# EAGLE library part PIC18F2550 (library microchip)
PIC18F2550 PIC18f2550 product page <http://www.microchip.com/wwwproducts/en/PIC18F2550> Datasheet <http://ww1.microchip.com/downloads/en/DeviceDoc/39632e.pdf> Ideal for low power (nanoWatt) and connectivity applications that benefit from the availability of three serial ports: FS-USB (12 Mbit/s), I²C™ and SPI™ (up to 10Mbit/s) and an asynchronous (LIN capable) serial port (EUSART). Large amounts of RAM memory for buffering and Enhanced FLASH program memory make it ideal for embedded control and monitoring applications that require periodic connection with a (legacy free) Personal Computer via USB for data upload/download and/or firmware updates. While operating up to 48 MHz, the PIC18F2550 is also mostly software and hardware compatible with the PIC16C745 Low-Speed USB OTP devices. THE PICSTART® Plus does NOT currently support this device but may support it in the future. USB Application Design Center <http://www.microchip.com/usb> Features: 1K byte Dual Port RAM + 1K byte GP RAM Full Speed Transceiver 16 Endpoints (IN/OUT) Internal Pull Up resistors (D+/D-) 48 MHz performance (12 MIPS) Pin-to-pin compatible with PIC16C7X5 Parameter Name Value Program Memory Type Flash Program Memory (KB) 32 CPU Speed (MIPS) 12 RAM Bytes 2,048 Data EEPROM (bytes) 256 Digital Communication Peripherals 1-UART, 1-A/E/USART, 1-SPI, 1-I2C1-MSSP(SPI/I2C) Capture/Compare/PWM Peripherals 2 CCP Timers 1 x 8-bit, 3 x 16-bit ADC 10 ch, 10-bit Comparators 2 USB (ch, speed, compliance) 1, FS Device, USB 2.0 Temperature Range (C) -40 to 85 Operating Voltage Range (V) 2 to 5.5 Pin Count 28
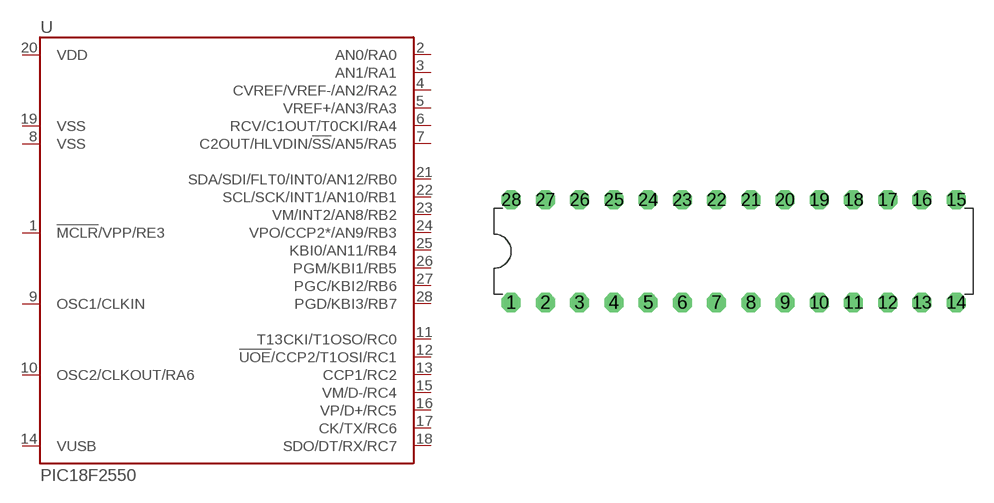
[diagram p1: symbol with the pads of DIL28N; footprint DIL28N]

Designator prefix U

## PIC18F2550-I/SP  [DIL28N]
1  !MCLR!/VPP/RE3  in
2  AN0/RA0
3  AN1/RA1
4  CVREF/VREF-/AN2/RA2
5  VREF+/AN3/RA3
6  RCV/C1OUT/T0CKI/RA4
7  C2OUT/HLVDIN/!SS!/AN5/RA5
8  VSS  pwr
9  OSC1/CLKIN  in
10  OSC2/CLKOUT/RA6  out
11  T13CKI/T1OSO/RC0
12  !UOE!/CCP2/T1OSI/RC1
13  CCP1/RC2
14  VUSB
15  VM/D-/RC4
16  VP/D+/RC5
17  CK/TX/RC6
18  SDO/DT/RX/RC7
19  VSS  pwr
20  VDD  pwr
21  SDA/SDI/FLT0/INT0/AN12/RB0
22  SCL/SCK/INT1/AN10/RB1
23  VM/INT2/AN8/RB2
24  VPO/CCP2*/AN9/RB3
25  KBI0/AN11/RB4
26  PGM/KBI1/RB5
27  PGC/KBI2/RB6
28  PGD/KBI3/RB7

## Footprint DIL28N (pad centres in mm)
drill 0.813 pad 1.422 octagon: 1 -16.51,-3.81; 2 -13.97,-3.81; 3 -11.43,-3.81; 4 -8.89,-3.81; 5 -6.35,-3.81; 6 -3.81,-3.81; 7 -1.27,-3.81; 8 1.27,-3.81; 9 3.81,-3.81; 10 6.35,-3.81; 11 8.89,-3.81; 12 11.43,-3.81; 13 13.97,-3.81; 14 16.51,-3.81; 15 16.51,3.81; 16 13.97,3.81; 17 11.43,3.81; 18 8.89,3.81; 19 6.35,3.81; 20 3.81,3.81; 21 1.27,3.81; 22 -1.27,3.81; 23 -3.81,3.81; 24 -6.35,3.81; 25 -8.89,3.81; 26 -11.43,3.81; 27 -13.97,3.81; 28 -16.51,3.81